# Altium footprint library SymphonyLights_SOC.PcbLib: 3 footprints
Each footprint in its own frame and in the unit in brackets; x right, y up, seen from the top. Pads: shape width x height; smd on the part's side, far side on the other; paste and mask are expansions set on the pad; w line width, h text height; cw(c..) or ccw(c..) is an arc to the next point about the centre after c.
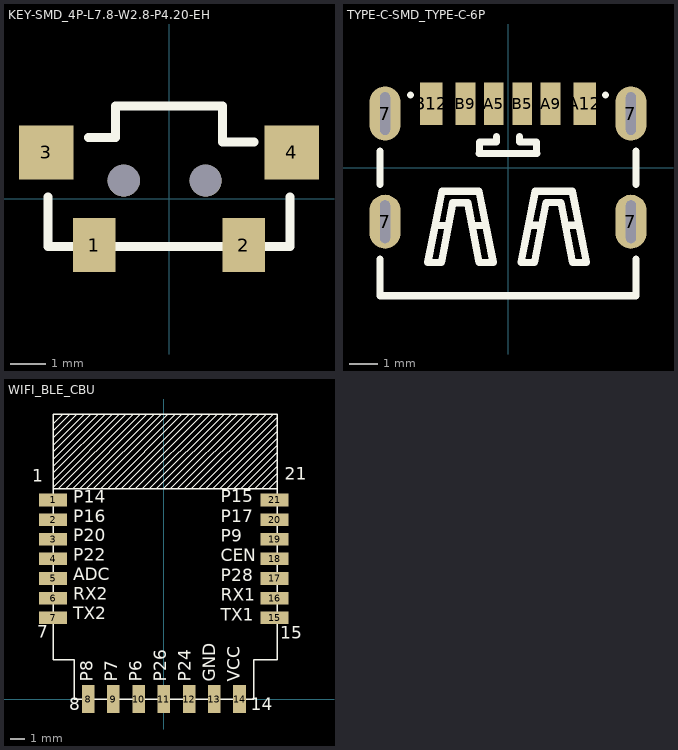
[diagram p0: the footprints below, top view; thin cyan lines are the x and y axes]

## KEY-SMD_4P-L7.8-W2.8-P4.20-EH [mil]
pads (6):
  rect 47.2x60 smd: 1(-82.7,-51.15) 2(82.7,-51.15)
  rect 60x60 smd: 3(-135.8,51.15) 4(135.8,51.15)
  round 35.43 hole 35.43 unplated: ""(-50,19.95) ""(40.55,19.95)
Top Overlay:
  lines w10: -133.9,2.15 -133.9,-52.85 133.9,-52.85 133.9,2.15 ; -89.1,67.65 -59.1,67.65 -59.1,102.65 59.1,102.65 59.1,62.65 94.1,62.65

## TYPE-C-SMD_TYPE-C-6P [mm]
height 2.65
pads (10):
  oval 1.1x1.899 hole 0.35 slot 1.5 at 90 deg: 7(-4.32,1.9) 7(-4.32,-1.9) 7(4.32,-1.9) 7(4.32,1.9)
  rect 0.7x1.5 smd: A5(-0.5,2.249) A9(1.5,2.249) B5(0.5,2.249) B9(-1.5,2.249)
  rect 0.8x1.5 smd: A12(2.7,2.249) B12(-2.7,2.249)
Top Overlay:
  lines w0.25: -4.5,-3.211 -4.5,-4.5 4.5,-4.5 4.5,-3.211 ; -4.5,-0.589 -4.5,0.589 ; -3.425,2.55 -3.424,2.55 ; -1.01,0.5 1.01,0.5 ; -1,0.5 -1,0.9 -0.4,0.9 -0.4,1.1 ; 0.4,1.1 0.4,0.9 1,0.9 1,0.5 ; 3.424,2.55 3.425,2.55 ; 4.5,-0.589 4.5,0.589
  lines w0.254: -2.518,-2.033 -2.119,-2.033 ; -1.219,-2.032 -0.819,-2.032 ; 0.759,-2.028 1.158,-2.028 ; 2.058,-2.027 2.458,-2.027 ; -2.818,-3.333 -2.32,-0.831 -1.019,-0.831 -0.519,-3.333 -1.014,-3.333 -1.413,-1.233 -1.941,-1.233 -2.343,-3.333 -2.818,-3.333 ; 0.459,-3.328 0.957,-0.826 2.257,-0.826 2.758,-3.328 2.263,-3.328 1.864,-1.228 1.335,-1.228 0.934,-3.328 0.459,-3.328

## WIFI_BLE_CBU [mm]
pads (21):
  rect 2x0.9 smd: 1(-7.9,14.2) 2(-7.9,12.8) 3(-7.9,11.4) 4(-7.9,10) 5(-7.9,8.6) 6(-7.9,7.2) 7(-7.9,5.8) 15(7.9,5.8) 16(7.9,7.2) 17(7.9,8.6) 18(7.9,10) 19(7.9,11.4) 20(7.9,12.8) 21(7.9,14.2)
  rect 0.9x2 smd: 8(-5.4,0) 9(-3.6,0) 10(-1.8,0) 11(0,0) 12(1.8,0) 13(3.6,0) 14(5.4,0)
Top Overlay:
  lines w0.051: -7.902,15.611 -3.194,20.319 ; -7.902,16.611 -4.189,20.324 ; -7.902,17.111 -4.693,20.32 ; -7.902,18.111 -5.689,20.324 ; -7.9,15.113 -2.703,20.31 ; -7.89,16.123 -3.723,20.29 ; -7.89,17.623 -5.197,20.316 ; -7.89,19.123 -6.709,20.304 ; -7.89,19.623 -7.213,20.3 ; -7.877,18.636 -6.205,20.308 ; -7.515,14.998 -2.199,20.314 ; -7.005,15.008 -1.682,20.331 ; -6.502,15.011 -1.216,20.297 ; -6.015,14.998 -0.687,20.326 ; -5.517,14.996 -0.195,20.318 ; -5.017,14.996 0.287,20.3 ; -4.517,14.996 0.762,20.275 ; -4.002,15.011 1.291,20.304 ; -3.517,14.996 1.795,20.308 ; -3.027,14.986 2.286,20.3 ; -2.527,14.986 2.79,20.304 ; -2.027,14.986 3.269,20.282 ; -1.527,14.986 3.811,20.324 ; -1.027,14.986 4.315,20.328 ; -0.527,14.986 4.806,20.32 ; -0.028,14.986 5.287,20.3 ; 0.472,14.986 5.776,20.289 ; 0.972,14.986 6.306,20.319 ; 1.472,14.986 6.81,20.323 ; 1.972,14.986 7.301,20.314 ; 2.472,14.986 7.78,20.293 ; 2.972,14.986 8.122,20.136 ; 3.483,14.996 8.098,19.611 ; 3.983,14.996 8.11,19.123 ; 4.483,14.996 8.123,18.636 ; 4.983,14.996 8.123,18.136 ; 5.483,14.996 8.123,17.636 ; 5.983,14.996 8.123,17.136 ; 6.483,14.996 8.11,16.623 ; 6.983,14.996 8.123,16.136 ; 7.483,14.996 8.135,15.648
  lines w0.1: -7.9,2.8 -7.9,20.301 ; -7.9,15 8.1,15 ; -7.9,20.3 8.1,20.3 8.1,2.8 ; -7.894,2.8 -6.4,2.8 -6.4,0 6.4,0 6.4,2.8 8.094,2.8
  text "P15" at 4.066,13.741 h1.5
  text "P17" at 4.066,12.323 h1.5
  text "P9" at 4.066,10.936 h1.5
  text "CEN" at 4.066,9.533 h1.5
  text "P28" at 4.066,8.13 h1.5
  text "RX1" at 4.066,6.711 h1.5
  text "TX1" at 4.066,5.309 h1.5
  text "GND" at 3.962,1.245 h1.5
  text "VCC" at 5.715,1.246 h1.5
  text "TX2" at -6.452,5.41 h1.5
  text "RX2" at -6.452,6.809 h1.5
  text "ADC" at -6.452,8.191 h1.5
  text "P22" at -6.452,9.573 h1.5
  text "P20" at -6.452,10.955 h1.5
  text "P16" at -6.452,12.322 h1.5
  text "P14" at -6.452,13.72 h1.5
  text "21" at 8.636,15.342 h1.5
  text "1" at -9.4,15.22 h1.5
  text "P24" at 2.194,1.245 h1.5
  text "P26" at 0.441,1.245 h1.5
  text "P6" at -1.307,1.245 h1.5
  text "P7" at -3.048,1.245 h1.5
  text "P8" at -4.801,1.245 h1.5
  text "7" at -9.044,4.069 h1.5
  text "8" at -6.756,-1.067 h1.5
  text "14" at 6.198,-1.067 h1.5
  text "15" at 8.306,4.013 h1.5